# Altium integrated library ST Automotive Injection Driver.IntLib: 1 symbol
Pins are listed as number, name and electrical type; pins without a type are passive.

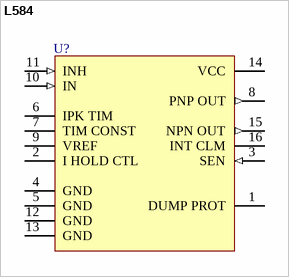
[diagram p0: symbol L584]

## L584
designator U?
Multification Injection Interface; Published: 24-Aug-2001; LatestRevisionDate: 6-Jun-2005; LatestRevisionNote: Stylized 3D Model Added.; DatasheetDocument: Nov-1988; PackageDocument: Apr-1996; PackageReference: DIP16; Publisher: Altium Limited; ComponentLink1Description: Manufacturer Link; ComponentLink1URL: http://www.st.com/
footprint DIP16 (DIP; 16 Leads; Row Spacing 7.62 mm; Pitch 2.54 mm)
3D model DIP16 (DIP; 16 Leads; Row Spacing 7.62 mm; Pitch 2.54 mm)
pins: 1 DUMP PROT, 2 I HOLD CTL, 3 SEN (in), 4 GND (power), 5 GND (power), 6 IPK TIM, 7 TIM CONST, 8 PNP OUT (out), 9 VREF, 10 IN (in), 11 INH (in), 12 GND (power), 13 GND (power), 14 VCC (power), 15 NPN OUT (out), 16 INT CLM